# EAGLE library part CY7C1019CV33 (library memory-sram)
128K x 8 Static RAM 10ns Source: Cypress CYP05780611.pdf
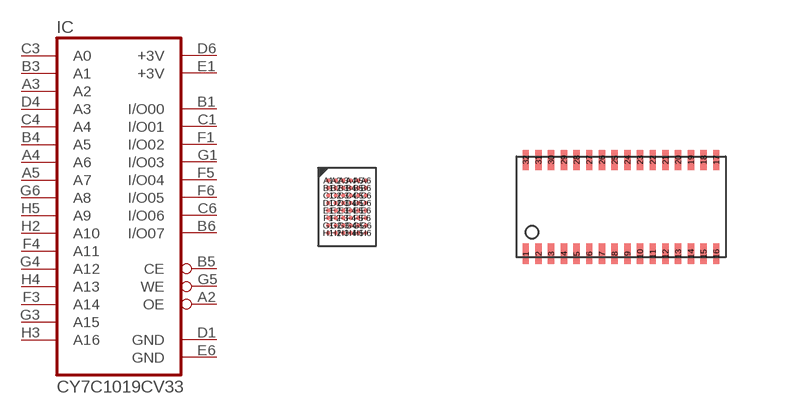
[diagram p0: symbol with the pads of VFBGA48; footprints VFBGA48, SOJ32-400]

Designator prefix IC

## CY7C1019CV33BVXI, CY7C1019CV33-12BVXI  [VFBGA48]
A2  OE  in
A3  A2  in
A4  A6  in
A5  A7  in
B1  I/O00
B3  A1  in
B4  A5  in
B5  CE
B6  I/O07
C1  I/O01
C3  A0  in
C4  A4  in
C6  I/O06
D1  GND  pwr
D4  A3  in
D6  +3V  pwr
E1  +3V  pwr
E6  GND  pwr
F1  I/O02
F3  A14  in
F4  A11  in
F5  I/O04
F6  I/O05
G1  I/O03
G3  A15  in
G4  A12  in
G5  WE  in
G6  A8  in
H2  A10  in
H3  A16  in
H4  A13  in
H5  A9  in

## CY7C1019CV33VC, CY7C1019CV33-10VC, CY7C1019CV33-12VC, CY7C1019CV33-15VC  [SOJ32-400]
1  A0  in
2  A1  in
3  A2  in
4  A3  in
5  CE
6  I/O00
7  I/O01
8  +3V  pwr
9  GND  pwr
10  I/O02
11  I/O03
12  WE  in
13  A4  in
14  A5  in
15  A6  in
16  A7  in
17  A8  in
18  A9  in
19  A10  in
20  A11  in
21  A12  in
22  I/O04
23  I/O05
24  +3V  pwr
25  GND  pwr
26  I/O06
27  I/O07
28  OE  in
29  A13  in
30  A14  in
31  A15  in
32  A16  in

## CY7C1019CV33ZXC, CY7C1019CV33-10ZXC, CY7C1019CV33-12ZXC, CY7C1019CV33-15ZXC  [TSOPII-32]
Pads as for SOJ32-400

## Footprint VFBGA48 (pad centres in mm)
48-ball VFBGA (6 x 8 x 1 mm) (51-85150) Source: Cypress CYP05780611.pdf
smd 0.113 x 0.113: A1 -0.469,0.656; A2 -0.281,0.656; A3 -0.094,0.656; A4 0.094,0.656; A5 0.281,0.656; A6 0.469,0.656; B1 -0.469,0.469; B2 -0.281,0.469; B3 -0.094,0.469; B4 0.094,0.469; B5 0.281,0.469; B6 0.469,0.469; C1 -0.469,0.281; C2 -0.281,0.281; C3 -0.094,0.281; C4 0.094,0.281; C5 0.281,0.281; C6 0.469,0.281; D1 -0.469,0.094; D2 -0.281,0.094; D3 -0.094,0.094; D4 0.094,0.094; D5 0.281,0.094; D6 0.469,0.094; E1 -0.469,-0.094; E2 -0.281,-0.094; E3 -0.094,-0.094; E4 0.094,-0.094; E5 0.281,-0.094; E6 0.469,-0.094; F1 -0.469,-0.281; F2 -0.281,-0.281; F3 -0.094,-0.281; F4 0.094,-0.281; F5 0.281,-0.281; F6 0.469,-0.281; G1 -0.469,-0.469; G2 -0.281,-0.469; G3 -0.094,-0.469; G4 0.094,-0.469; G5 0.281,-0.469; G6 0.469,-0.469; H1 -0.469,-0.656; H2 -0.281,-0.656; H3 -0.094,-0.656; H4 0.094,-0.656; H5 0.281,-0.656; H6 0.469,-0.656

## Footprint SOJ32-400 (pad centres in mm)
32-pin (400-Mil) Molded SOJ (51-85033) Source:
smd 0.159 x 0.508: 1 -2.381,-1.175; 2 -2.064,-1.175; 3 -1.746,-1.175; 4 -1.429,-1.175; 5 -1.111,-1.175; 6 -0.794,-1.175; 7 -0.476,-1.175; 8 -0.159,-1.175; 9 0.159,-1.175; 10 0.476,-1.175; 11 0.794,-1.175; 12 1.111,-1.175; 13 1.429,-1.175; 14 1.746,-1.175; 15 2.064,-1.175; 16 2.381,-1.175; 17 2.381,1.175; 18 2.064,1.175; 19 1.746,1.175; 20 1.429,1.175; 21 1.111,1.175; 22 0.794,1.175; 23 0.476,1.175; 24 0.159,1.175; 25 -0.159,1.175; 26 -0.476,1.175; 27 -0.794,1.175; 28 -1.111,1.175; 29 -1.429,1.175; 30 -1.746,1.175; 31 -2.064,1.175; 32 -2.381,1.175

## Footprint TSOPII-32 (pad centres in mm)
32-pin TSOP II (51-85095) Source: Cypress CYP05780611.pdf
smd 0.15 x 0.3: 1 -2.381,-1.407; 2 -2.064,-1.407; 3 -1.746,-1.407; 4 -1.429,-1.407; 5 -1.111,-1.407; 6 -0.794,-1.407; 7 -0.476,-1.407; 8 -0.159,-1.407; 9 0.159,-1.407; 10 0.476,-1.407; 11 0.794,-1.407; 12 1.111,-1.407; 13 1.429,-1.407; 14 1.746,-1.407; 15 2.064,-1.407; 16 2.381,-1.407; 17 2.381,1.407; 18 2.064,1.407; 19 1.746,1.407; 20 1.429,1.407; 21 1.111,1.407; 22 0.794,1.407; 23 0.476,1.407; 24 0.159,1.407; 25 -0.159,1.407; 26 -0.476,1.407; 27 -0.794,1.407; 28 -1.111,1.407; 29 -1.429,1.407; 30 -1.746,1.407; 31 -2.064,1.407; 32 -2.381,1.407